# Altium footprint library Picoblade 8pin.PcbLib: 1 footprints
Each footprint in its own frame and in the unit in brackets; x right, y up, seen from the top. Pads: shape width x height; smd on the part's side, far side on the other; paste and mask are expansions set on the pad; w line width, h text height; cw(c..) or ccw(c..) is an arc to the next point about the centre after c.
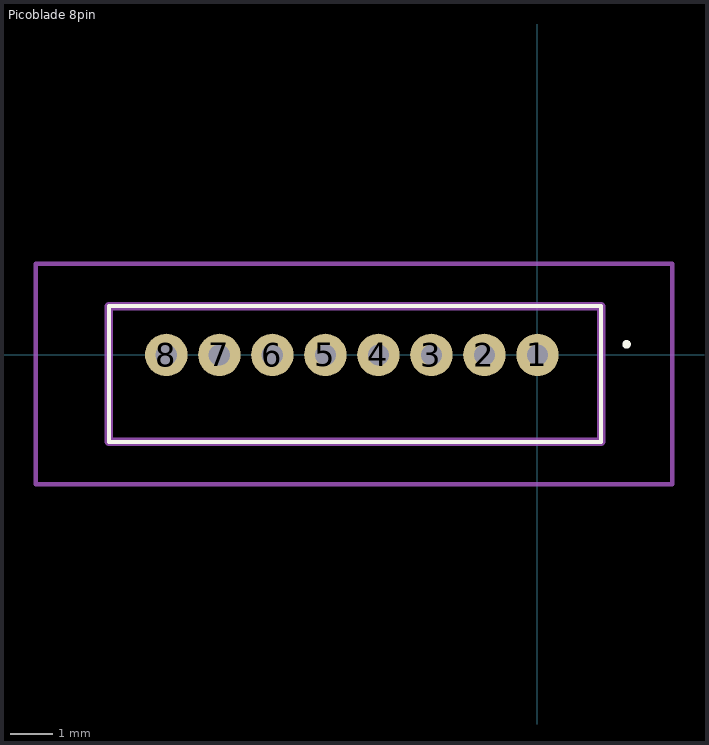
[diagram p0: the footprint, top view; thin cyan lines are the x and y axes]

## Picoblade 8pin [mm]
pads (8):
  round 1 hole 0.5: 1(0,0) 2(-1.25,0) 3(-2.5,0) 4(-3.75,0) 5(-5,0) 6(-6.25,0) 7(-7.5,0) 8(-8.75,0)
Top Overlay:
  lines w0.1: -10.103,-2.05 -10.103,1.15 1.5,1.15 1.5,-2.05 -10.103,-2.05 ; 2.1,0.2 ccw(c2.1,0.25) 2.1,0.3 ccw(c2.1,0.25) 2.1,0.2
Mechanical 13:
  lines w0.2: -10.103,-2.05 -10.103,-1.25 -10.103,0.35 -10.103,1.15 ; -10.1,-2.05 1.5,-2.05 1.5,1.15 -10.1,1.15
Mechanical 15:
  lines w0.1: -11.825,-3.05 -11.825,2.15 3.175,2.15 3.175,-3.05 -11.825,-3.05
3D body "0530470910.stp": height 4.5, standoff -5, extent -10.85,-2.05 2.15,1.15